# EAGLE library part MCP4017T (library work)
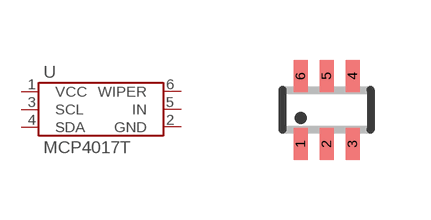
[diagram p97: symbol with the pads of SC-70-6; footprint SC-70-6]

Designator prefix U

## MCP4017T  [SC-70-6]
1  VCC
2  GND
3  SCL
4  SDA
5  IN
6  WIPER

## Footprint SC-70-6 (pad centres in mm)
smd 0.35 x 0.8: 1 -0.65,-0.85; 2 0,-0.85; 3 0.65,-0.85; 4 0.65,0.85; 5 0,0.85; 6 -0.65,0.85